# Altium footprint library SRR1240.PcbLib: 1 footprints
Each footprint in its own frame and in the unit in brackets; x right, y up, seen from the top. Pads: shape width x height; smd on the part's side, far side on the other; paste and mask are expansions set on the pad; w line width, h text height; cw(c..) or ccw(c..) is an arc to the next point about the centre after c.
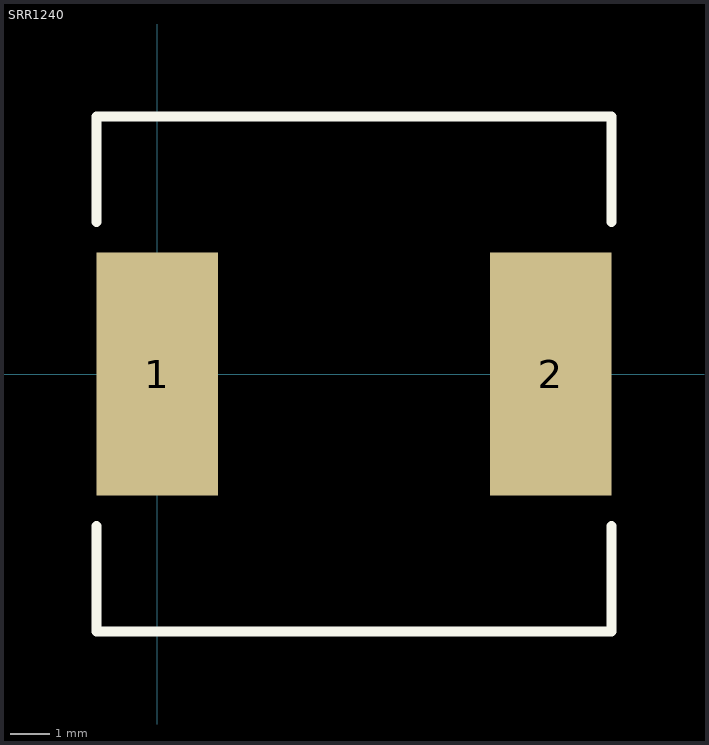
[diagram p0: the footprint, top view; thin cyan lines are the x and y axes]

## SRR1240 [mil]
height 177
pads (2):
  rect 120x240 smd: 1(0,0) 2(388,0)
Top Overlay:
  lines w10: -60,-150 -60,-254 448,-254 448,-150 ; -60,150 -60,254 448,254 448,150